# Altium schematic symbol library 5747846-4.SchLib: 1 symbol
Pins are listed as number, name and electrical type; pins without a type are passive.

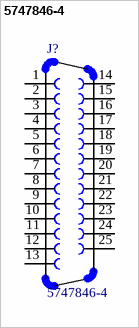
[diagram p0: symbol 5747846-4]

## 5747846-4
designator J?
SnapEDA_Link: https://www.snapeda.com/parts/5747846-4/TE%20Connectivity%20AMP%20Connectors/view-part/2759124/?ref=snap; Value: *
footprint *TE_5747846-4
pins: 1, 2, 3, 4, 5, 6, 7, 8, 9, 10, 11, 12, 13, 14, 15, 16, 17, 18, 19, 20, 21, 22, 23, 24, 25